# EAGLE library part IM03GR (library IM03GR)
DPDT telecom SMT relay, 2A 5Vdc coil Source: Datasheet <https://datasheet.datasheetarchive.com/originals/distributors/Datasheets_SAMA/af0478e68580ade93768a4593bd7be66.pdf>
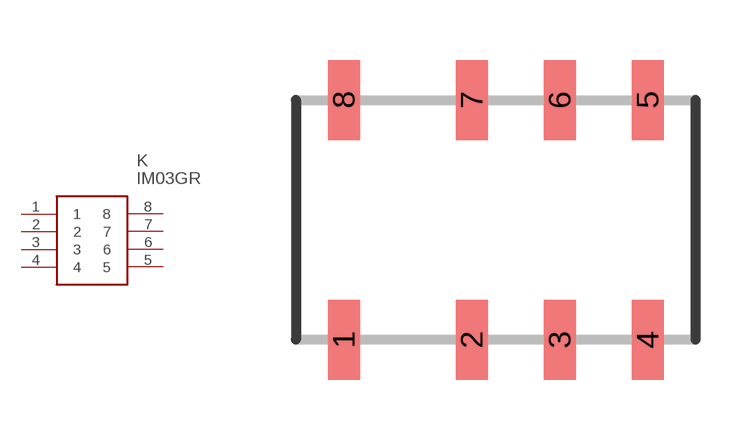
[diagram p0: symbol with the pads of IM06GR; footprint IM06GR]

Designator prefix K

## IM03GR (Description: DPDT telecom SMT relay, 2A 5Vdc coil; Height: mm; Manufacturer_Name: TE Connectivity; Manufacturer_Part_Number: IM03GR; Mouser_Part_Number: 655-IM03GR; Mouser_Price-Stock: https://www.mouser.co.uk/ProductDetail/TE-Connectivity/IM03GR?qs=h8jywBNgiq20bLq7q22y%252Bg%3D%3D)  [IM06GR]
1  1
2  2
3  3
4  4
5  5
6  6
7  7
8  8

## Footprint IM06GR (pad centres in mm)
IM06GR
smd 0.8 x 2: 1 -3.8,-3; 2 -0.6,-3; 3 1.6,-3; 4 3.8,-3; 5 3.8,3; 6 1.6,3; 7 -0.6,3; 8 -3.8,3